# Altium integrated library Dimmer.IntLib: 19 symbols
Pins are listed as number, name and electrical type; pins without a type are passive.

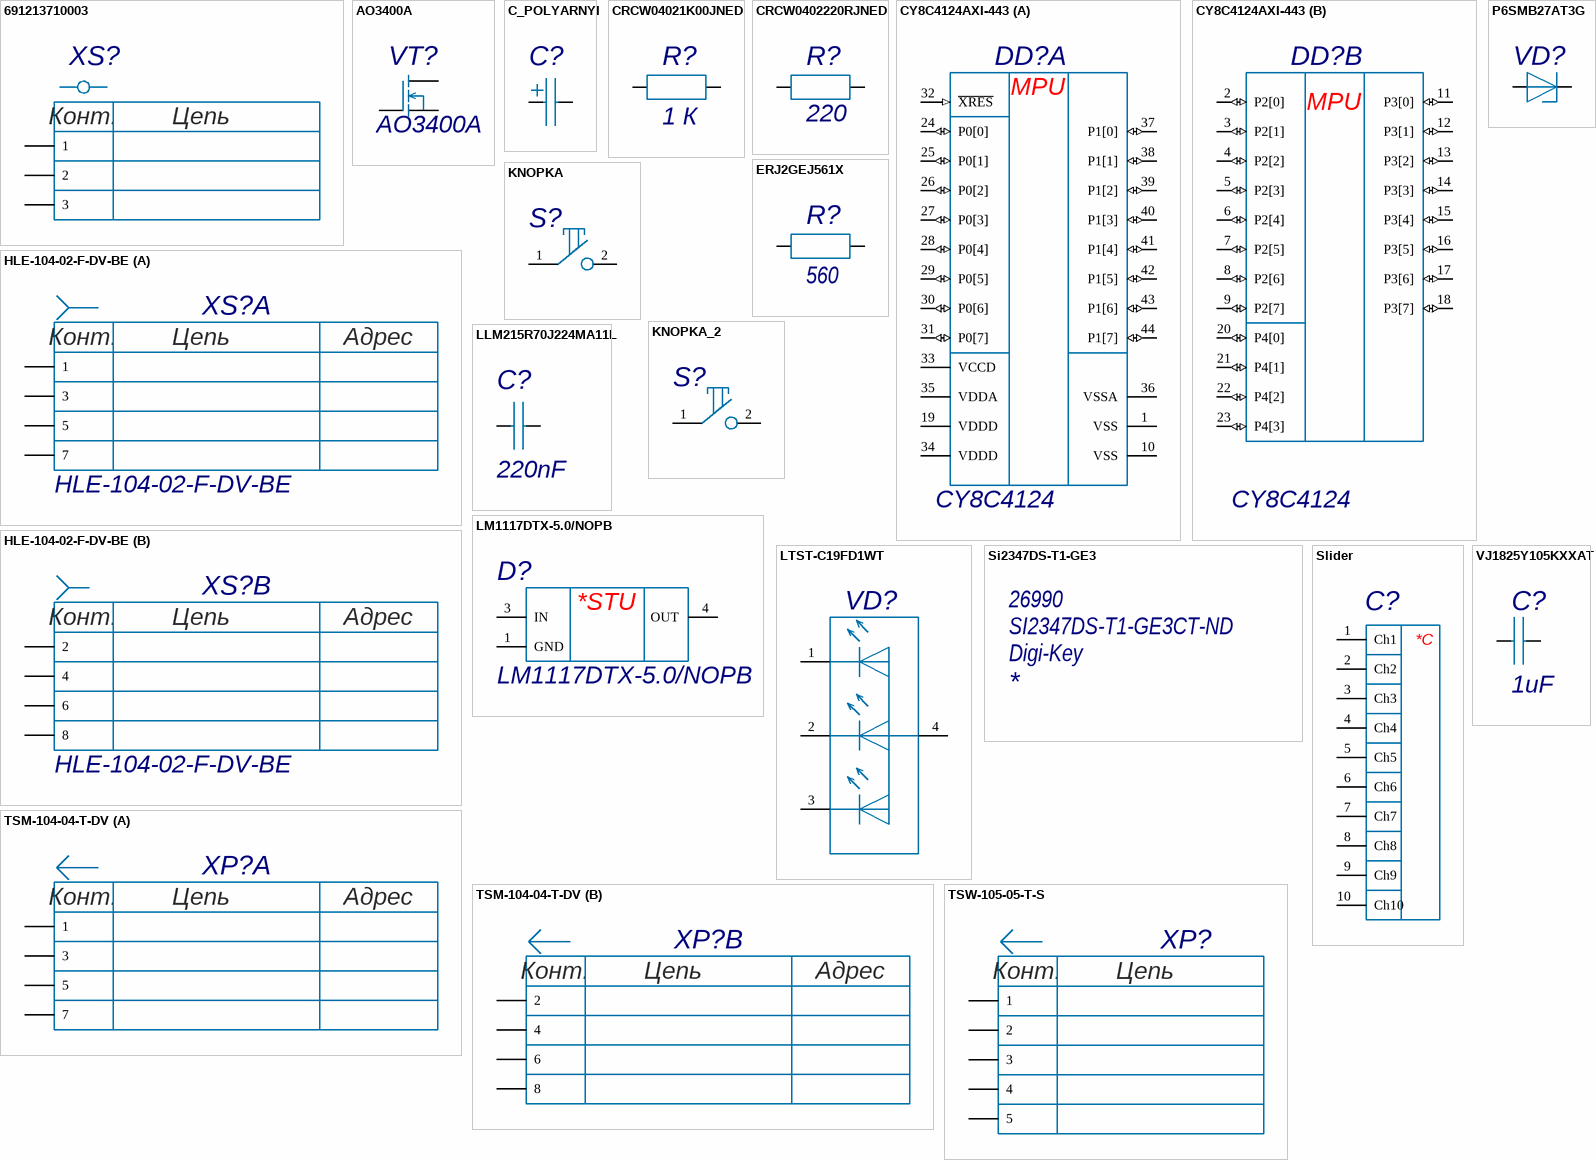
[diagram p0: symbols 691213710003 to VJ1825Y105KXXAT]

## 691213710003
designator XS?  (value not drawn)
TERM BLK 5MM HORZ ENTRY MOD 3P; Manufacturer: Wurht Electronics; Manufacturer Part Number: 691213710003; Plating: Brass; Number of Levels: 1; Number of Positions Per Level: 3; Current: 10A; Voltage: 300V; Connector Type: PCB; Pitch: 0.197inch; Wire Gauge (Max): 26AWG; Wire Gauge (Min): 16AWG; Stripping Length: -7mm; Mount: Through Hole; Color: Green; Contact Plating: Brass; Contact Material: Brass; Housing Material: Nylon; Min Operating Temperature: -40°C; Max Operating Temperature: 105°C; Package Quantity: 1300; Packaging: Bulk; Termination: Screw; Number of Contacts: 3; Length: 8.3mm; Height: 10mm; Wire/Cable Gauge: 16AWG; Width: 15.6mm; Lead Pitch: 5mm; REACH SVHC: Unknown; ComponentLink1URL: https://datasheet.ciiva.com/824/6912137100xx-824134.pdf?src-supplier=Digi-Key; ComponentLink1Description: https://datasheet.ciiva.com/824/6912137100xx-824134.pdf?src-supplier=Digi-Key; Stock 1: 1324; Supplier Part Number 1: 732-2039-ND; Supplier 1: Digi-Key
footprint ETB15-3
pins: 1, 2, 3
1 alternate drawing of the same symbol
text: Конт.; Цепь

## AO3400A
designator VT?
MOSFET N-CH 30V 5.7A SOT23; Manufacturer: Alpha & Omega Semiconductor; Gate to Source Voltage (Vgs): 12V; Rds On Max: 26.5mR; Input Capacitance: 630pF; Max Power Dissipation: 1.4W; Number of Elements: 1; Mount: Surface Mount; Case/Package: SOT-23; Number of Pins: 3; Min Operating Temperature: -55°C; Max Operating Temperature: 150°C; Packaging: Tape and Reel; Drain to Source Voltage (Vdss): 30V; Continuous Drain Current (ID): 5.7A; Power Dissipation: 1.4W; Radiation Hardening: No; Lead Free: Lead Free; ComponentLink1URL: https://datasheet.ciiva.com/940/ao3400a-940739.pdf?src-supplier=Digi-Key; ComponentLink1Description: https://datasheet.ciiva.com/940/ao3400a-940739.pdf?src-supplier=Digi-Key; Stock 1: 660154; Supplier 1: Digi-Key; Supplier Part Number 1: 785-1000-1-ND; Manufacturer Part Number: AO3400A
footprint AO-SOT23-3_V
pins: D "Сток (drain)", G "Затвор (gate)", S "Исток (source)"

## C_POLYARNYI
designator C?
Конденсатор электролитический поляризованный; Manufacturer Part Number: C_POLYARNYI
pins: 1, 2

## CRCW04021K00JNED
designator R?, comment value 1 К  (hidden comment: RES SMD 1K OHM 5% 1/16W 0402)
Стандартные толстопленочные чип-резисторы; Manufacturer Part Number: CRCW04021K00JNED; Manufacturer: Vishay; Temperature Coefficient: 200ppm/°C; Max Power Dissipation: 63мВт; Voltage Rating: 50В; Mount: Surface Mount; Case/Package: 0402; Number of Pins: 2; Weight: 2.3E-05oz; Case Code (Imperial): 0402; Case Code (Metric): 1005; Contact Plating: Tin; Min Operating Temperature: -55°C; Max Operating Temperature: 155°C; Packaging: Tape and Reel; Tolerance: 5%; Composition: Thick Film; Number of Terminations: 2; Power Rating: 63мВт; Package Quantity: 1; Features: Automotive AEC-Q200; Military Standard: Not; Termination: SMD/SMT; Working Voltage: 50В; Length: 1mm; Height: 0.016inch; Width: 0.5mm; Depth: 0.5mm; Radiation Hardening: No; REACH SVHC: Unknown; ComponentLink3URL: https://datasheet.ciiva.com/16199/dcrcwe3-16199256.pdf?src-supplier=Future+Electronics; ComponentLink3Description: https://datasheet.ciiva.com/16199/dcrcwe3-16199256.pdf?src-supplier=Future+Electronics; Stock 1: 160000; Supplier 1: Future Electronics; Supplier Part Number 1: CRCW04021K00JNED-REEL
pins: 1, 2

## CRCW0402220RJNED
designator R?, comment value 220  (hidden comment: RES SMD 220 OHM 5% 1/16W 0402)
Стандартные толстопленочные чип-резисторы; Manufacturer Part Number: CRCW0402220RJNED; Manufacturer: Vishay; Power Rating: 63мВт; Temperature Coefficient: 200ppm/°C; Voltage Rating: 50В; Case/Package: 0402; Weight: 2.3E-05oz; Case Code (Metric): 1005; Case Code (Imperial): 0402; Contact Plating: Tin; Min Operating Temperature: -55°C; Max Operating Temperature: 155°C; Tolerance: 5%; Packaging: Tape and Reel; Composition: Thick Film; Number of Terminations: 2; Max Power Dissipation: 63мВт; Package Quantity: 1; Features: Automotive AEC-Q200; Termination: SMD/SMT; Military Standard: Not; Voltage Rating (DC): 50В; Length: 1mm; Height: 0.35mm; Width: 0.02inch; Depth: 0.5mm; Lead Free: Lead Free; REACH SVHC: Unknown; ComponentLink8URL: https://datasheet.ciiva.com/2462/dcrcwe3-2462039.pdf?src-supplier=Digi-Key; ComponentLink8Description: https://datasheet.ciiva.com/2462/dcrcwe3-2462039.pdf?src-supplier=Digi-Key; Stock 1: 42; Supplier 1: Digi-Key; Supplier Part Number 1: 541-220JCT-ND
pins: 1, 2

## CY8C4124AXI-443
designator DD?, comment CY8C4124
MCU 32-Bit PSoC 4100 ARM Cortex M0 RISC 16KB Flash 3.3V/5V 44-Pin TQFP Tray; Manufacturer Part Number: CY8C4124AXI-443.1; Manufacturer: Cypress; RAM Size: 4KB; Interface: I2C; Number of I/Os: 36; Number of Timers/Counters: 4; Max Supply Voltage: 5.5V; Min Supply Voltage: 1.71V; Frequency: 24MHz; Oscillator Type: Internal; Data Bus Width: 32b; Watchdog Timer: Yes; Number of ADC Channels: 1; Peripherals: Brown-out Detect/Reset; Operating Supply Voltage: 1.8V; Case/Package: TQFP; Number of Pins: 44; Contact Plating: Gold; Min Operating Temperature: -40°C; Max Operating Temperature: 85°C; Packaging: Tray; Number of Programmable I/O: 36; Max Frequency: 24MHz; Memory Type: FLASH; Memory Size: 16KB; Package Quantity: 320; Number of GPIO: 36; Core Architecture: ARM; Lead Free: Lead Free; ComponentLink1URL: https://datasheet.ciiva.com/30024/001-87220-30024906.pdf?src-supplier=Avnet; ComponentLink1Description: https://datasheet.ciiva.com/30024/001-87220-30024906.pdf?src-supplier=Avnet; Stock 1: 212; Supplier 1: Farnell; Supplier Part Number 1: 2772875
footprint CYP-AX44-51-85064_N
part A pins: 1 VSS (power) "Digital Ground", 10 VSS (power) "Ground pin", 19 VDDD (power) "Digital Supply, 1.8 - 5.5 V", 24 P0[0] (io) "Port 0 Pin 0: gpio, lcd, csd, scb0, comp", 25 P0[1] (io) "Port 0 Pin 1: gpio, lcd, csd, scb0, comp", 26 P0[2] (io) "Port 0 Pin 2: gpio, lcd, csd, scb0, comp", 27 P0[3] (io) "Port 0 Pin 3: gpio, lcd, csd, comp", 28 P0[4] (io) "Port 0 Pin 4: gpio, lcd, csd, scb1", 29 P0[5] (io) "Port 0 Pin 5: gpio, lcd, csd, scb1", 30 P0[6] (io) "Port 0 Pin 6: gpio, lcd, csd, scb1, ext_clk", 31 P0[7] (io) "Port 0 Pin 7: gpio, lcd, csd, scb1, wakeup", 32 ~{XRES} (in) "Chip reset, active low", 33 VCCD (power) "Regulated supply, connect to 1 uF cap or 1.8 V", 34 VDDD (power) "Digital Supply, 1.8 - 5.5 V", 35 VDDA (power) "Analog Supply, 1.8 - 5.5 V, equal to VDDD", 36 VSSA (power) "Analog Ground", 37 P1[0] (io) "Port 1 Pin 0: gpio, lcd, csd, ctb, pwm", 38 P1[1] (io) "Port 1 Pin 1: gpio, lcd, csd, ctb, pwm", 39 P1[2] (io) "Port 1 Pin 2: gpio, lcd, csd, ctb, pwm", 40 P1[3] (io) "Port 1 Pin 3: gpio, lcd, csd, ctb, pwm", 41 P1[4] (io) "Port 1 Pin 4: gpio, lcd, csd, ctb", 42 P1[5] (io) "Port 1 Pin 5: gpio, lcd, csd, ctb", 43 P1[6] (io) "Port 1 Pin 6: gpio, lcd, csd", 44 P1[7] (io) "Port 1 Pin 7: gpio, lcd, csd, ext_ref"
part B pins: 2 P2[0] (io) "Port 2 Pin 0: gpio, lcd, csd, sarmux", 3 P2[1] (io) "Port 2 Pin 1: gpio, lcd, csd, sarmux", 4 P2[2] (io) "Port 2 Pin 2: gpio, lcd, csd, sarmux", 5 P2[3] (io) "Port 2 Pin 3: gpio, lcd, csd, sarmux", 6 P2[4] (io) "Port 2 Pin 4: gpio, lcd, csd, sarmux, pwm", 7 P2[5] (io) "Port 2 Pin 5: gpio, lcd, csd, sarmux, pwm", 8 P2[6] (io) "Port 2 Pin 6: gpio, lcd, csd, sarmux, pwm", 9 P2[7] (io) "Port 2 Pin 7: gpio, lcd, csd, sarmux, pwm", 11 P3[0] (io) "Port 3 Pin 0: gpio, lcd, csd, pwm, scb1", 12 P3[1] (io) "Port 3 Pin 1: gpio, lcd, csd, pwm, scb1", 13 P3[2] (io) "Port 3 Pin 2: gpio, lcd, csd, pwm, scb1, swd", 14 P3[3] (io) "Port 3 Pin 3: gpio, lcd, csd, pwm, scb1, swd", 15 P3[4] (io) "Port 3 Pin 4: gpio, lcd, csd, pwm, scb1", 16 P3[5] (io) "Port 3 Pin 5: gpio, lcd, csd, pwm, scb1", 17 P3[6] (io) "Port 3 Pin 6: gpio, lcd, csd, pwm, scb1, swd", 18 P3[7] (io) "Port 3 Pin 7: gpio, lcd, csd, pwm, swd", 20 P4[0] (io) "Port 4 Pin 0: gpio, lcd, csd, scb0", 21 P4[1] (io) "Port 4 Pin 1: gpio, lcd, csd, scb0", 22 P4[2] (io) "Port 4 Pin 2: gpio, lcd, csd, scb0", 23 P4[3] (io) "Port 4 Pin 3: gpio, lcd, csd, scb0"
part A text: MPU
part B text: MPU

## ERJ2GEJ561X
designator R?, comment value 560  (hidden comment: 560R 5% 0402(1005))
Стандартные толстопленочные чип-резисторы; Manufacturer Part Number: ERJ2GEJ561X; Manufacturer: Panasonic; Temperature Coefficient: 200ppm/°C; Power Rating: 100мВт; Voltage Rating: 50B; Voltage Rating (DC): 50В; Mount: Surface Mount; Case Code (Metric): 1005; Case Code (Imperial): 0402; Contact Plating: Tin; Min Operating Temperature: -55°C; Max Operating Temperature: 155°C; Tolerance: 5%; Packaging: Tape and Reel; Composition: Thick Film; Number of Terminations: 2; Max Power Dissipation: 100мВт; Termination: SMD/SMT; Length: 1mm; Height: 0.35mm; Width: 0.02inch; Depth: 0.5mm; ComponentLink3URL: https://datasheet.ciiva.com/9119/aoa0000ce1-9119070.pdf?src-supplier=Avnet; ComponentLink3Description: https://datasheet.ciiva.com/9119/aoa0000ce1-9119070.pdf?src-supplier=Avnet; Category: Chip SMD Resistors; Stock 1: 159946; Supplier 1: Digi-Key; Supplier Part Number 1: P560JCT-ND
footprint RESC0402(1005)_L
footprint RESC0402(1005)_M
footprint RESC0402(1005)_N
pins: 1, 2

## HLE-104-02-F-DV-BE
designator XS?
Conn Socket Strip SKT 8 POS 2.54mm Solder ST SMD; Manufacturer Part Number: HLE-104-02-F-DV-BE.1; Manufacturer: Samtec; Number of Contacts: 8; Gender: Female; Max Voltage Rating (AC): 400V; Contact Plating: Gold; Contact Material: Copper; Housing Color: Black; Housing Material: Polymer; Min Operating Temperature: -55°C; Max Operating Temperature: 125°C; Number of Rows: 2; Packaging: Bulk; Termination: Solder; Orientation: Vertical; Length: 10.16mm; Pitch: 2.54mm; Depth: 5.08mm; Radiation Hardening: No; ComponentLink1URL: https://datasheet.ciiva.com/10157/hle-10157854.pdf?src-supplier=Avnet; ComponentLink1Description: https://datasheet.ciiva.com/10157/hle-10157854.pdf?src-supplier=Avnet; Stock 1: 0; Supplier 1: Avnet; Supplier Part Number 1: HLE-104-02-F-DV-BE
footprint SMTC-HLE-104-02-X-DV-BE
part A pins: 1, 3, 5, 7
part B pins: 2, 4, 6, 8
part A text: Конт.; Цепь; Адрес
part B text: Конт.; Цепь; Адрес

## KNOPKA
designator S?
Manufacturer Part Number: Сенсор
footprint ELASTO_5.08MM
pins: 1, 2 "1"

## KNOPKA_2
designator S?
Manufacturer Part Number: Сенсор
footprint DOME_SQ04200N
pins: 1, 2 "1"

## LLM215R70J224MA11L
designator C?, comment value 220nF  (hidden comment: 220nF 6.3V 0805(2012))
Керамический чип-конденсатор; Manufacturer Part Number: LLM215R70J224MA11L; Manufacturer: Murata; Tolerance: 20%; Dielectric: X7R; Mount: Surface Mount; Case/Package: 0805; Case Code (Metric): 2012; Case Code (Imperial): 0805; Min Operating Temperature: -55°C; Max Operating Temperature: 125°C; Package Quantity: 1; Voltage Rating: 6.3V; Packaging: Tape and Reel; Termination: SMD/SMT; Voltage Rating (DC): 6.3V; Length: 2mm; Height: 0.5mm; Width: 0.049inch; Thickness: 0.022inch; Depth: 1.25mm; Radiation Hardening: No; Lead Free: Lead Free; ComponentLink9URL: http://datasheet.octopart.com/LLM215R70J224MA11L-Murata-datasheet-11978611.pdf; ComponentLink9Description: http://datasheet.octopart.com/LLM215R70J224MA11L-Murata-datasheet-11978611.pdf; Stock 1: 3598; Supplier 1: Mouser; Supplier Part Number 1: 81-LLM215R70J224MA1L
footprint CAPC0805(2012)100_N
pins: 1, 2

## LM1117DTX-5.0/NOPB
designator D?
LDO Regulator Pos 5V 0.8A 3-Pin(2+Tab) TO-252 T/R; Manufacturer: TI National Semiconductor; Quiescent Current: 10mA; Dropout Voltage: 1.2V; Max Input Voltage: 15V; Output Current: 800mA; Number of Outputs: 1; Polarity: Positive; Output Type: Fixed; Accuracy: 1%; Mount: Surface Mount; Case/Package: TO-252; Number of Pins: 3; Contact Plating: Tin; Min Operating Temperature: -40°C; Max Operating Temperature: 125°C; Output Voltage: 5V; Packaging: Tape and Reel; Max Output Current: 800mA; Package Quantity: 2500; Number of Regulators: 1; Min Current Limit: 800mA; Nominal Output Voltage: 5V; Output Voltage Accuracy: 1%; Radiation Hardening: No; Lead Free: Lead Free; REACH SVHC: No SVHC; ComponentLink1URL: https://datasheet.ciiva.com/39121/1280534-39121523.pdf?src-supplier=Jameco; ComponentLink1Description: https://datasheet.ciiva.com/39121/1280534-39121523.pdf?src-supplier=Jameco; Stock 1: 2500; Supplier 1: Arrow; Supplier Part Number 1: LM1117DTX-5.0/NOPB; Manufacturer Part Number: LM1117DTX-5.0/NOPB
footprint NDP0003B_L (D-PAK, 4-Leads, Body 6.1x6.6mm, Pitch 2.29mm, Lead Span 9.7mm, IPC High Density)
footprint NDP0003B_M (D-PAK, 4-Leads, Body 6.1x6.6mm, Pitch 2.29mm, Lead Span 9.7mm, IPC Low Density)
footprint NDP0003B_N (D-PAK, 4-Leads, Body 6.1x6.6mm, Pitch 2.29mm, Lead Span 9.7mm, IPC Medium Density)
pins: 1 GND (power), 3 IN (power), 4 OUT (power)
text: *STU

## LTST-C19FD1WT
designator VD?  (value not drawn)
LED BLUE/GRN/ORG DIFF CHIP SMD; Manufacturer: Vishay Lite-On; Color: Blue; Lens Color: White; Viewing Angle: 130°; Forward Voltage: 3.5V; Forward Current: 20mA; Lens Style: Diffused; Number of LEDs: 3; Luminous Intensity: 180mcd; Dominant Wavelength: 470nm; Reverse Voltage: 5V; Mount: Surface Mount; Case/Package: SMD/SMT; Number of Pins: 4; Min Operating Temperature: -20°C; Max Operating Temperature: 80°C; Packaging: Tape and Reel; Package Quantity: 1; Test Current: 20mA; Lens Transparency: Diffused; Number of Elements: 3; Length: 2.1mm; Height: 0.55mm; Width: 1.6mm; Depth: 1.6mm; Radiation Hardening: No; Lead Free: Lead Free; ComponentLink3URL: https://datasheet.ciiva.com/12400/lite-on-ltst-c19fd1wt-190144-12400694.pdf?src-supplier=Mouser; ComponentLink3Description: https://datasheet.ciiva.com/12400/lite-on-ltst-c19fd1wt-190144-12400694.pdf?src-supplier=Mouser; Stock 1: 5000; Supplier 1: Arrow; Supplier Part Number 1: LTST-C19FD1WT; Manufacturer Part Number: LTST-C19FD1WT
footprint LITO-RGB-L210W160H55-4
pins: 1 B "BLUE CATHODE", 2 R "ORANGE CATHODE", 3 G "GREEN CATHODE", 4 A "COMMON ANODE"
2 alternate drawings of the same symbol

## P6SMB27AT3G
designator VD?  (value not drawn)
TVS DIODE 23.1V 37.5V SMB; Manufacturer: ON Semiconductor; Breakdown Voltage: 27V; Max Surge Current: 16A; Reverse Breakdown Voltage: 25.7V; Number of Elements: 1; Direction: Unidirectional; Peak Pulse Power: 600W; Power Line Protection: No; Max Reverse Leakage Current: 5uA; Test Current: 1mA; ESD Protection: Yes; Element Configuration: Single; Max Breakdown Voltage: 28.4V; Case/Package: SMB; Number of Pins: 2; Contact Plating: Tin; Min Operating Temperature: -65°C; Max Operating Temperature: 150°C; Packaging: Tape and Reel; Package Quantity: 1; Operating Supply Voltage: 23.1V; Clamping Voltage: 37.5V; Polarity: Unidirectional; Number of Unidirectional Channels: 1; Reverse Standoff Voltage: 23.1V; Min Breakdown Voltage: 25.7V; Peak Pulse Current: 16A; Leakage Current: 5uA; Power Dissipation: 600W; Voltage Rating (DC): 27V; Current Rating: 16A; Composition: Zener; Number of Channels: 1; Termination: SMD/SMT; Length: 4.32mm; Height: 2.13mm; Width: 3.56mm; Depth: 3.56mm; Radiation Hardening: No; Lead Free: Lead Free; REACH SVHC: No SVHC; ComponentLink1URL: https://datasheet.ciiva.com/3021/p6smb6-8at3-d-3021361.pdf?src-supplier=Avnet; ComponentLink1Description: https://datasheet.ciiva.com/3021/p6smb6-8at3-d-3021361.pdf?src-supplier=Avnet; Stock 1: 0; Supplier 1: Avnet; Supplier Part Number 1: P6SMB27AT3G; Manufacturer Part Number: P6SMB27AT3G
footprint ONSC-SMB-2-403A-03_J_V
pins: 1, 2

## Si2347DS-T1-GE3
designator *  Supplier 1: Digi-Key  Supplier Part Number 1: SI2347DS-T1-GE3CT-ND  Stock 1: 26990
P-Channel 30 V 42 mOhm 22 nC Surface Mount Power Mosfet - SOT-23-3; Manufacturer Part Number: Si2347DS-T1-GE3; Rise Time: 6ns; Rds On Max: 42mR; Input Capacitance: 705pF; Drain to Source Voltage (Vdss): 30V; Continuous Drain Current (ID): 3.8A; Max Power Dissipation: 1.7W; Fall Time: 9ns; Gate to Source Voltage (Vgs): 20V; Drain to Source Resistance: 68mR; Turn-Off Delay Time: 19ns; Number of Elements: 1; Threshold Voltage: -2.5V; Element Configuration: Single; Drain to Source Breakdown Voltage: -30V; Mount: Surface Mount; Case/Package: SOT-23-3; Number of Pins: 3; Contact Plating: Tin; Min Operating Temperature: -55°C; Max Operating Temperature: 150°C; Packaging: Tape and Reel; Package Quantity: 3000; Power Dissipation: 1.7W; Radiation Hardening: No; REACH SVHC: No SVHC; Lead Free: Lead Free; ComponentLink1URL: https://datasheet.ciiva.com/30021/si2347ds-30021794.pdf?src-supplier=Avnet; ComponentLink1Description: https://datasheet.ciiva.com/30021/si2347ds-30021794.pdf?src-supplier=Avnet

## Slider
designator C?
Manufacturer Part Number: Слайдер сенсорный
footprint Slider
pins: 1 Ch1, 2 Ch2, 3 Ch3, 4 Ch4, 5 Ch5, 6 Ch6, 7 Ch7, 8 Ch8, 9 Ch9, 10 Ch10
text: *C

## TSM-104-04-T-DV
designator XP?  (value not drawn)
SAMTEC  Board-To-Board Connector, / TSM Series, 8 Contacts, Header, 2.54 mm, / Surface Mount, 2 Rows; Manufacturer Part Number: TSM-104-04-T-DV.1; Number of Contacts: 8; Gender: Male; Pitch: 2.54mm; Mount: Surface Mount; Contact Plating: Tin; Contact Material: Bronze; Number of Rows: 2; Termination: Solder; Packaging: Bulk; Radiation Hardening: No; Lead Free: Lead Free; REACH SVHC: No SVHC; ComponentLink1URL: http://www.farnell.com/datasheets/1927672.pdf?src-supplier=Farnell; ComponentLink1Description: http://www.farnell.com/datasheets/1927672.pdf?src-supplier=Farnell; ComponentLink2URL: http://www.samtec.com/documents/webfiles/pdf/TSM.PDF?src-supplier=Avnet+Europe; ComponentLink2Description: http://www.samtec.com/documents/webfiles/pdf/TSM.PDF?src-supplier=Avnet+Europe; ComponentLink3URL: http://www.samtec.com/documents/webfiles/pdf/TSM.PDF?src-supplier=Avnet; ComponentLink3Description: http://www.samtec.com/documents/webfiles/pdf/TSM.PDF?src-supplier=Avnet; Stock 1: 283; Supplier 1: Mouser; Supplier Part Number 1: 200-TSM10404TDV; Manufacturer: Samtec
footprint TSM-104-04-T-DV
part A pins: 1, 3, 5, 7
part B pins: 2, 4, 6, 8
part A text: Конт.; Цепь; Адрес
part B text: Конт.; Цепь; Адрес

## TSW-105-05-T-S
designator XP?  (value not drawn)
TSW - Samtec 2.54mm Pin Header 13.46mm Overall Pin Length 5.08mm Tail (08); Number of Contacts: 10; Gender: Male; Max Current Rating: 7.6A; Max Voltage Rating (AC): 550V; Connector Type: Male Pin; Row Spacing: 0.1inch; Mount: Through Hole; Contact Material: Bronze; Contact Plating: Gold; Housing Color: Black; Housing Material: Polyester; Color: Black; Min Operating Temperature: -55°C; Max Operating Temperature: 125°C; Number of Rows: 2; Packaging: Bulk; Termination: Solder; Orientation: Straight; Number of Positions: 10; Package Quantity: 1; Length: 12.7mm; Pitch: 2.54mm; Depth: 5.08mm; Contact Mating Length: 0.23inch; Width: 5.08mm; Radiation Hardening: No; Lead Free: Lead Free; ComponentLink4URL: http://datasheet.octopart.com/TSW-105-08-S-D-Samtec-datasheet-97325576.pdf?src-supplier=Samtec; ComponentLink4Description: http://datasheet.octopart.com/TSW-105-08-S-D-Samtec-datasheet-97325576.pdf?src-supplier=Samtec; Stock 1: 162; Supplier 1: Mouser; Supplier Part Number 1: 200-TSW10508SD; Manufacturer: Samtec; Manufaturer Part Number: TSW-105-05-T-S; Manufacturer Part Number: TSW-105-05-T-S
footprint SMTC-TSW-105-05-X-S
pins: 1, 2, 3, 4, 5
1 alternate drawing of the same symbol
text: Конт.; Цепь

## VJ1825Y105KXXAT
designator C?, comment value 1uF  (hidden comment: 1825 1 uF 25 V ±10 %  X7R)
Керамический чип-конденсатор; Manufacturer Part Number: VJ1825Y105KXXAT; Manufacturer: Vishay; Tolerance: 10%; Voltage Rating (DC): 25V; Mount: Surface Mount; Case/Package: 1825; Min Operating Temperature: -55°C; Max Operating Temperature: 150°C; Dielectric: X7R; Voltage Rating: 25V; Length: 4.5mm; Depth: 6.4mm; Lead Free: Lead Free; ComponentLink2URL: http://datasheet.octopart.com/VJ1825Y105KXXAT-Vishay-datasheet-14932079.pdf; ComponentLink2Description: http://datasheet.octopart.com/VJ1825Y105KXXAT-Vishay-datasheet-14932079.pdf; Stock 1: 0; Supplier 1: Avnet; Supplier Part Number 1: VJ1825Y105KXXAT
footprint CAPC1825(4564)220_N
pins: 1, 2